# Altium integrated library NSC Interface.IntLib: 504 symbols (part 10 of 16)
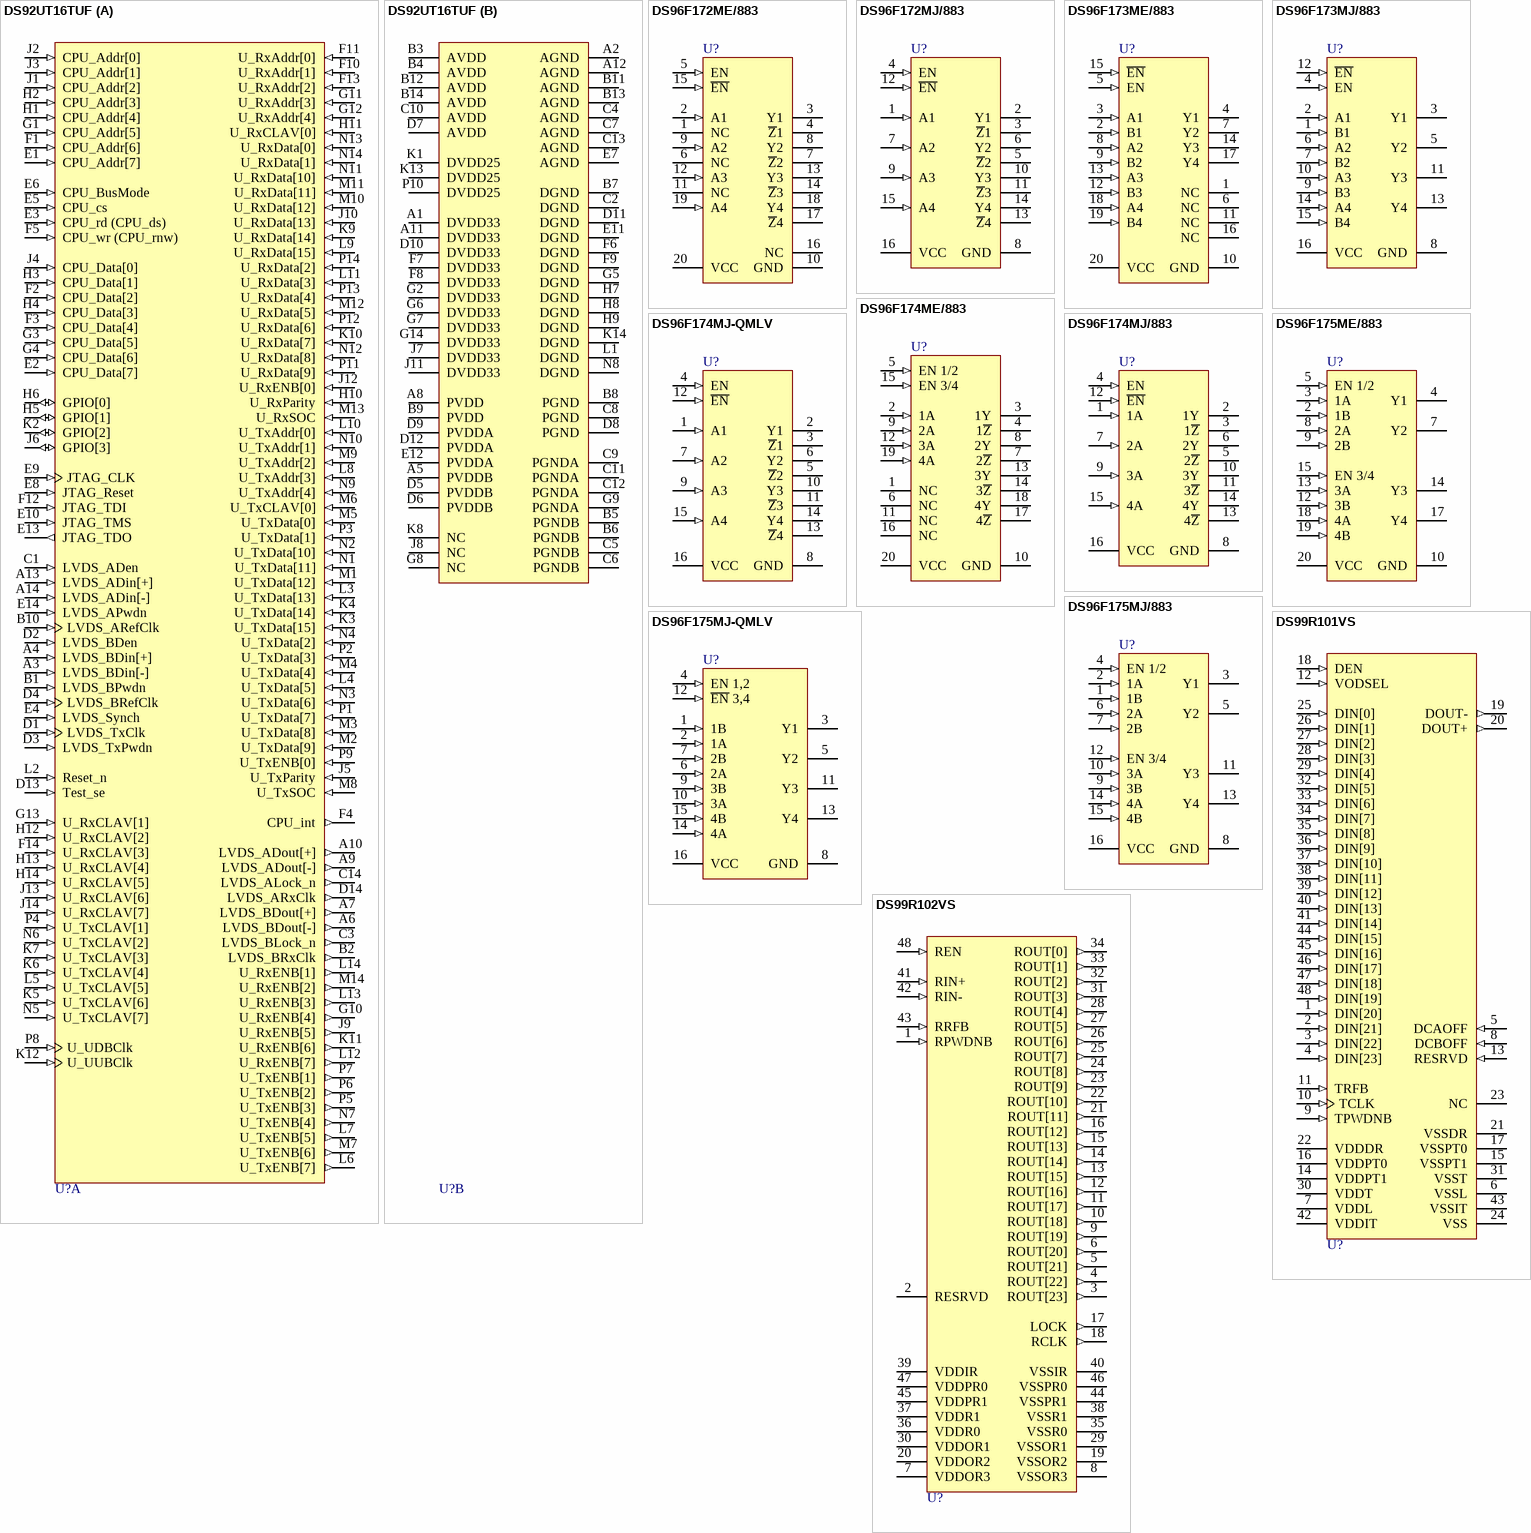
[diagram p50: symbols DS92UT16TUF to DS99R102VS]

## DS92UT16TUF
designator U?
Utopia-LVDS Bridge for 1.6 Gbps Bi-directional Data Transfers; PartNumber: DS92UT16TUF; Manufacturer: National Semiconductor; CompType: Interface IC; PackageTopMarking: NSUZXYYTT*DS92UT16TUF*BBBBB; PowerWise: N; Published: 4-Dec-2008; DatasheetVersion: Feb-2004; PackageVersion: revC, Jul-2005; PackageReference: UJB196A; Publisher: Altium Limited; PackageDescription: LBGA, 15 x 15 x 1.37mm, 196 Ball, 1.0mm Pitch; RoHS: O; PinCount: 196; DigiKeyPartNumber: DS92UT16TUF-ND; Code_JEDEC: MO-192-AAE-1; ComponentLink1Description: DS92UT16 Datasheet; ComponentLink1URL: http://www.national.com/ds/DS/DS92UT16.pdf; ComponentLink2Description: DS92UT16 Web Page; ComponentLink2URL: http://www.national.com/pf/DS/DS92UT16.html; ComponentLink3Description: UJB196A Package Page; ComponentLink3URL: http://www.national.com/packaging/folders/ujb196a.html
footprint UJB196A (BGA, 196-Leads, Body 15x15mm, Pitch 1mm)
part A pins: A3 LVDS_BDin[-] (in), A4 LVDS_BDin[+] (in), A6 LVDS_BDout[-] (out), A7 LVDS_BDout[+] (out), A9 LVDS_ADout[-] (out), A10 LVDS_ADout[+] (out), A13 LVDS_ADin[+] (in), A14 LVDS_ADin[-] (in), B1 LVDS_BPwdn (in), B2 LVDS_BRxClk (out), B10 LVDS_ARefClk (in), C1 LVDS_ADen (in), C3 LVDS_BLock_n (out), C14 LVDS_ALock_n (out), D1 LVDS_TxClk (in), D2 LVDS_BDen (in), D3 LVDS_TxPwdn (in), D4 LVDS_BRefClk (in), D13 Test_se (in), D14 LVDS_ARxClk (out), E1 CPU_Addr[7] (in), E2 CPU_Data[7] (in), E3 CPU_rd (CPU_ds) (in), E4 LVDS_Synch (in), E5 CPU_cs (in), E6 CPU_BusMode (in), E8 JTAG_Reset (in), E9 JTAG_CLK (in), E10 JTAG_TMS (in), E13 JTAG_TDO (out), E14 LVDS_APwdn (in), F1 CPU_Addr[6] (in), F2 CPU_Data[2] (in), F3 CPU_Data[4] (in), F4 CPU_int (out), F5 CPU_wr (CPU_rnw) (in), F10 U_RxAddr[1] (in), F11 U_RxAddr[0] (in), F12 JTAG_TDI (in), F13 U_RxAddr[2] (in), F14 U_RxCLAV[3] (in), G1 CPU_Addr[5] (in), G3 CPU_Data[5] (in), G4 CPU_Data[6] (in), G10 U_RxENB[4] (out), G11 U_RxAddr[3] (in), G12 U_RxAddr[4] (in), G13 U_RxCLAV[1] (in), H1 CPU_Addr[4] (in), H2 CPU_Addr[3] (in), H3 CPU_Data[1] (in), H4 CPU_Data[3] (in), H5 GPIO[1] (io), H6 GPIO[0] (io), H10 U_RxParity (in), H11 U_RxCLAV[0] (in), H12 U_RxCLAV[2] (in), H13 U_RxCLAV[4] (in), H14 U_RxCLAV[5] (in), J1 CPU_Addr[2] (in), J2 CPU_Addr[0] (in), J3 CPU_Addr[1] (in), J4 CPU_Data[0] (in), J5 U_TxParity (in), J6 GPIO[3] (io), J9 U_RxENB[5] (out), J10 U_RxData[13] (in), J12 U_RxENB[0] (in), J13 U_RxCLAV[6] (in), J14 U_RxCLAV[7] (in), K2 GPIO[2] (io), K3 U_TxData[15] (in), K4 U_TxData[14] (in), K5 U_TxCLAV[6] (in), K6 U_TxCLAV[4] (in), K7 U_TxCLAV[3] (in), K9 U_RxData[14] (in), K10 U_RxData[7] (in), K11 U_RxENB[6] (out), K12 U_UUBClk (in), L2 Reset_n (in), L3 U_TxData[13] (in), L4 U_TxData[5] (in), L5 U_TxCLAV[5] (in), L6 U_TxENB[7] (out), L7 U_TxENB[5] (out), L8 U_TxAddr[3] (in), L9 U_RxData[15] (in), L10 U_TxAddr[0] (in), L11 U_RxData[3] (in), L12 U_RxENB[7] (out), L13 U_RxENB[3] (out), L14 U_RxENB[1] (out), M1 U_TxData[12] (in), M2 U_TxData[9] (in), M3 U_TxData[8] (in), M4 U_TxData[4] (in), M5 U_TxData[0] (in), M6 U_TxCLAV[0] (in), M7 U_TxENB[6] (out), M8 U_TxSOC (in), M9 U_TxAddr[2] (in), M10 U_RxData[12] (in), M11 U_RxData[11] (in), M12 U_RxData[5] (in), M13 U_RxSOC (in), M14 U_RxENB[2] (out), N1 U_TxData[11] (in), N2 U_TxData[10] (in), N3 U_TxData[6] (in), N4 U_TxData[2] (in), N5 U_TxCLAV[7] (in), N6 U_TxCLAV[2] (in), N7 U_TxENB[4] (out), N9 U_TxAddr[4] (in), N10 U_TxAddr[1] (in), N11 U_RxData[10] (in), N12 U_RxData[8] (in), N13 U_RxData[0] (in), N14 U_RxData[1] (in), P1 U_TxData[7] (in), P2 U_TxData[3] (in), P3 U_TxData[1] (in), P4 U_TxCLAV[1] (in), P5 U_TxENB[3] (out), P6 U_TxENB[2] (out), P7 U_TxENB[1] (out), P8 U_UDBClk (in), P9 U_TxENB[0] (in), P11 U_RxData[9] (in), P12 U_RxData[6] (in), P13 U_RxData[4] (in), P14 U_RxData[2] (in)
part B pins: A1 DVDD33 (power), A2 AGND (power), A5 PVDDB (power), A8 PVDD (power), A11 DVDD33 (power), A12 AGND (power), B3 AVDD (power), B4 AVDD (power), B5 PGNDB (power), B6 PGNDB (power), B7 DGND (power), B8 PGND (power), B9 PVDD (power), B11 AGND (power), B12 AVDD (power), B13 AGND (power), B14 AVDD (power), C2 DGND (power), C4 AGND (power), C5 PGNDB (power), C6 PGNDB (power), C7 AGND (power), C8 PGND (power), C9 PGNDA (power), C10 AVDD (power), C11 PGNDA (power), C12 PGNDA (power), C13 AGND (power), D5 PVDDB (power), D6 PVDDB (power), D7 AVDD (power), D8 PGND (power), D9 PVDDA (power), D10 DVDD33 (power), D11 DGND (power), D12 PVDDA (power), E7 AGND (power), E11 DGND (power), E12 PVDDA (power), F6 DGND (power), F7 DVDD33 (power), F8 DVDD33 (power), F9 DGND (power), G2 DVDD33 (power), G5 DGND (power), G6 DVDD33 (power), G7 DVDD33 (power), G8 NC, G9 PGNDA (power), G14 DVDD33 (power), H7 DGND (power), H8 DGND (power), H9 DGND (power), J7 DVDD33 (power), J8 NC, J11 DVDD33 (power), K1 DVDD25 (power), K8 NC, K13 DVDD25 (power), K14 DGND (power), L1 DGND (power), N8 DGND (power), P10 DVDD25 (power)

## DS96F172ME/883
designator U?
EIA-485/EIA-422 Quad Differential Driver; PartNumber: DS96F172ME/883; Manufacturer: National Semiconductor; CompType: Interface IC; PackageTopMarking: NS*ZSSXXYYA*DS96F172ME*/883 Q 5962-*9076501M2A; PowerWise: N; Published: 4-Dec-2008; DatasheetVersion: Jul-2000; PackageVersion: revF, May-2004; PackageReference: E20A; Publisher: Altium Limited; PackageDescription: Leadless Chip Carrier, Type C, 20 Terminal; RoHS: N; PinCount: 20; Code_JEDEC: MS-004-CB; ComponentLink1Description: DS96F172M Datasheet; ComponentLink1URL: http://www.national.com/ds/DS/DS96F172M.pdf; ComponentLink2Description: DS96F172M Web Page; ComponentLink2URL: http://www.national.com/pf/DS/DS96F172M.html; ComponentLink3Description: E20A Package Page; ComponentLink3URL: http://www.national.com/packaging/folders/e20a.html
footprint E20A_N (Leadless Chip Carrier, 20-Leads, Body 8.9x8.9mm, Pitch 1.27mm, IPC Medium Density)
footprint E20A_L (Leadless Chip Carrier, 20-Leads, Body 8.9x8.9mm, Pitch 1.27mm, IPC High Density)
footprint E20A_M (Leadless Chip Carrier, 20-Leads, Body 8.9x8.9mm, Pitch 1.27mm, IPC Low Density)
pins: 1 NC, 2 A1 (in), 3 Y1 (hiz), 4 ~{Z}1 (hiz), 5 EN (in), 6 NC, 7 ~{Z}2 (hiz), 8 Y2 (hiz), 9 A2 (in), 10 GND (power), 11 NC, 12 A3 (in), 13 Y3 (hiz), 14 ~{Z}3 (hiz), 15 ~{EN} (in), 16 NC, 17 ~{Z}4 (hiz), 18 Y4 (hiz), 19 A4 (in), 20 VCC (power)

## DS96F172MJ/883
designator U?
EIA-485/EIA-422 Quad Differential Driver; PartNumber: DS96F172MJ/883; Manufacturer: National Semiconductor; CompType: Interface IC; PackageTopMarking: NSZSSXXYYA*DS96F172MJ/883 Q*5962-9076501MEA; PowerWise: N; Published: 4-Dec-2008; DatasheetVersion: Jul-2000; PackageVersion: revL, Sep-1993; PackageReference: J16A; Publisher: Altium Limited; PackageDescription: Cerdip (J), 16 Lead; RoHS: N; PinCount: 16; ComponentLink1Description: DS96F172M Datasheet; ComponentLink1URL: http://www.national.com/ds/DS/DS96F172M.pdf; ComponentLink2Description: DS96F172M Web Page; ComponentLink2URL: http://www.national.com/pf/DS/DS96F172M.html; ComponentLink3Description: J16A Package Page; ComponentLink3URL: http://www.national.com/packaging/folders/j16a.html
footprint J16A (DIP, 16-Leads, Row Spacing 7.62mm, Pitch 2.54mm, Body 19.56x6.73mm)
pins: 1 A1 (in), 2 Y1 (hiz), 3 ~{Z}1 (hiz), 4 EN (in), 5 ~{Z}2 (hiz), 6 Y2 (hiz), 7 A2 (in), 8 GND (power), 9 A3 (in), 10 Y3 (hiz), 11 ~{Z}3 (hiz), 12 ~{EN} (in), 13 ~{Z}4 (hiz), 14 Y4 (hiz), 15 A4 (in), 16 VCC (power)

## DS96F173ME/883
designator U?
EIA-485/EIA-422 Quad Differential Receiver; PartNumber: DS96F173ME/883; Manufacturer: National Semiconductor; CompType: Interface IC; PackageTopMarking: NS*ZSSXXYYA*DS96F173ME*/883 Q 5962-*9076602M2A; PowerWise: N; Published: 4-Dec-2008; DatasheetVersion: Jul-2000; PackageVersion: revF, May-2004; PackageReference: E20A; Publisher: Altium Limited; PackageDescription: Leadless Chip Carrier, Type C, 20 Terminal; RoHS: N; PinCount: 20; Code_JEDEC: MS-004-CB; ComponentLink1Description: DS96F173M Datasheet; ComponentLink1URL: http://www.national.com/ds/DS/DS96F173M.pdf; ComponentLink2Description: DS96F173M Web Page; ComponentLink2URL: http://www.national.com/pf/DS/DS96F173M.html; ComponentLink3Description: E20A Package Page; ComponentLink3URL: http://www.national.com/packaging/folders/e20a.html
footprint E20A_N (Leadless Chip Carrier, 20-Leads, Body 8.9x8.9mm, Pitch 1.27mm, IPC Medium Density)
footprint E20A_L (Leadless Chip Carrier, 20-Leads, Body 8.9x8.9mm, Pitch 1.27mm, IPC High Density)
footprint E20A_M (Leadless Chip Carrier, 20-Leads, Body 8.9x8.9mm, Pitch 1.27mm, IPC Low Density)
pins: 1 NC, 2 B1 (in), 3 A1 (in), 4 Y1 (hiz), 5 EN (in), 6 NC, 7 Y2 (hiz), 8 A2 (in), 9 B2 (in), 10 GND (power), 11 NC, 12 B3 (in), 13 A3 (in), 14 Y3 (hiz), 15 ~{EN} (in), 16 NC, 17 Y4 (hiz), 18 A4 (in), 19 B4 (in), 20 VCC (power)

## DS96F173MJ/883
designator U?
EIA-485/EIA-422 Quad Differential Receiver; PartNumber: DS96F173MJ/883; Manufacturer: National Semiconductor; CompType: Interface IC; PackageTopMarking: NSZSSXXYYA*DS96F173MJ/883 Q*5962-9076602MEA; PowerWise: N; Published: 4-Dec-2008; DatasheetVersion: Jul-2000; PackageVersion: revL, Sep-1993; PackageReference: J16A; Publisher: Altium Limited; PackageDescription: Cerdip (J), 16 Lead; RoHS: N; PinCount: 16; ComponentLink1Description: DS96F173M Datasheet; ComponentLink1URL: http://www.national.com/ds/DS/DS96F173M.pdf; ComponentLink2Description: DS96F173M Web Page; ComponentLink2URL: http://www.national.com/pf/DS/DS96F173M.html; ComponentLink3Description: J16A Package Page; ComponentLink3URL: http://www.national.com/packaging/folders/j16a.html
footprint J16A (DIP, 16-Leads, Row Spacing 7.62mm, Pitch 2.54mm, Body 19.56x6.73mm)
pins: 1 B1 (in), 2 A1 (in), 3 Y1 (hiz), 4 EN (in), 5 Y2 (hiz), 6 A2 (in), 7 B2 (in), 8 GND (power), 9 B3 (in), 10 A3 (in), 11 Y3 (hiz), 12 ~{EN} (in), 13 Y4 (hiz), 14 A4 (in), 15 B4 (in), 16 VCC (power)

## DS96F174ME/883
designator U?
EIA-485/EIA-422 Quad Differential Driver; PartNumber: DS96F174ME/883; Manufacturer: National Semiconductor; CompType: Interface IC; PackageTopMarking: NSZSSXXYYA*DS96F174ME*/883 Q*5962-*9076502M2A; PowerWise: N; Published: 4-Dec-2008; DatasheetVersion: Jul-2000; PackageVersion: revF, May-2004; PackageReference: E20A; Publisher: Altium Limited; PackageDescription: Leadless Chip Carrier, Type C, 20 Terminal; RoHS: N; PinCount: 20; Code_JEDEC: MS-004-CB; ComponentLink1Description: DS96F174M Datasheet; ComponentLink1URL: http://www.national.com/ds/DS/DS96F174M.pdf; ComponentLink2Description: DS96F174M Web Page; ComponentLink2URL: http://www.national.com/pf/DS/DS96F174M.html; ComponentLink3Description: E20A Package Page; ComponentLink3URL: http://www.national.com/packaging/folders/e20a.html
footprint E20A_N (Leadless Chip Carrier, 20-Leads, Body 8.9x8.9mm, Pitch 1.27mm, IPC Medium Density)
footprint E20A_L (Leadless Chip Carrier, 20-Leads, Body 8.9x8.9mm, Pitch 1.27mm, IPC High Density)
footprint E20A_M (Leadless Chip Carrier, 20-Leads, Body 8.9x8.9mm, Pitch 1.27mm, IPC Low Density)
pins: 1 NC, 2 1A (in), 3 1Y (hiz), 4 1~{Z} (hiz), 5 EN 1/2 (in), 6 NC, 7 2~{Z} (hiz), 8 2Y (hiz), 9 2A (in), 10 GND (power), 11 NC, 12 3A (in), 13 3Y (hiz), 14 3~{Z} (hiz), 15 EN 3/4 (in), 16 NC, 17 4~{Z} (hiz), 18 4Y (hiz), 19 4A (in), 20 VCC (power)

## DS96F174MJ-QMLV
designator U?
EIA-485/EIA-422 Quad Differential Drivers; PartNumber: DS96F174MJ/883; Manufacturer: National Semiconductor; CompType: Interface IC; PackageTopMarking: NSZSSXXYYA*DS96F174MJ/883 Q*5962-9076502MEA; PowerWise: N; Published: 4-Dec-2008; DatasheetVersion: Jul-2000; PackageVersion: revL, Sep-1993; PackageReference: J16A; Publisher: Altium Limited; PackageDescription: Cerdip (J), 16 Lead; RoHS: N; PinCount: 16; ComponentLink1Description: DS96F174M Datasheet; ComponentLink1URL: http://www.national.com/ds/DS/DS96F174M.pdf; ComponentLink2Description: DS96F174M Web Page; ComponentLink2URL: http://www.national.com/pf/DS/DS96F174M.html; ComponentLink3Description: J16A Package Page; ComponentLink3URL: http://www.national.com/packaging/folders/j16a.html
footprint J16A (DIP, 16-Leads, Row Spacing 7.62mm, Pitch 2.54mm, Body 19.56x6.73mm)
pins: 1 A1 (in), 2 Y1 (hiz), 3 ~{Z}1 (hiz), 4 EN (in), 5 ~{Z}2 (hiz), 6 Y2 (hiz), 7 A2 (in), 8 GND (power), 9 A3 (in), 10 Y3 (hiz), 11 ~{Z}3 (hiz), 12 ~{EN} (in), 13 ~{Z}4 (hiz), 14 Y4 (hiz), 15 A4 (in), 16 VCC (power)

## DS96F174MJ/883
designator U?
EIA-485/EIA-422 Quad Differential Driver; PartNumber: DS96F174MJ-QMLV; Manufacturer: National Semiconductor; CompType: Interface IC; PackageTopMarking: NSZSSXXYYA*5962-9076502VEA*DS96F174MJ-QV Q; PowerWise: N; Published: 4-Dec-2008; DatasheetVersion: Jul-2000; PackageVersion: revL, Sep-1993; PackageReference: J16A; Publisher: Altium Limited; PackageDescription: Cerdip (J), 16 Lead; RoHS: N; PinCount: 16; ComponentLink1Description: DS96F174M Datasheet; ComponentLink1URL: http://www.national.com/ds/DS/DS96F174M.pdf; ComponentLink2Description: DS96F174M Web Page; ComponentLink2URL: http://www.national.com/pf/DS/DS96F174M.html; ComponentLink3Description: J16A Package Page; ComponentLink3URL: http://www.national.com/packaging/folders/j16a.html
footprint J16A (DIP, 16-Leads, Row Spacing 7.62mm, Pitch 2.54mm, Body 19.56x6.73mm)
pins: 1 1A (in), 2 1Y (hiz), 3 1~{Z} (hiz), 4 EN (in), 5 2~{Z} (hiz), 6 2Y (hiz), 7 2A (in), 8 GND (power), 9 3A (in), 10 3Y (hiz), 11 3~{Z} (hiz), 12 ~{EN} (in), 13 4~{Z} (hiz), 14 4Y (hiz), 15 4A (in), 16 VCC (power)

## DS96F175ME/883
designator U?
EIA-485/EIA-422 Quad Differential Receiver; PartNumber: DS96F175ME/883; Manufacturer: National Semiconductor; CompType: Interface IC; PackageTopMarking: NS*ZSSXXYYA*DS96F175ME*/883 Q 5962-*9076601M2A; PowerWise: N; Published: 4-Dec-2008; DatasheetVersion: Jul-2000; PackageVersion: revF, May-2004; PackageReference: E20A; Publisher: Altium Limited; PackageDescription: Leadless Chip Carrier, Type C, 20 Terminal; RoHS: N; PinCount: 20; Code_JEDEC: MS-004-CB; ComponentLink1Description: DS96F175M Datasheet; ComponentLink1URL: http://www.national.com/ds/DS/DS96F175M.pdf; ComponentLink2Description: DS96F175M Web Page; ComponentLink2URL: http://www.national.com/pf/DS/DS96F175M.html; ComponentLink3Description: E20A Package Page; ComponentLink3URL: http://www.national.com/packaging/folders/e20a.html
footprint E20A_N (Leadless Chip Carrier, 20-Leads, Body 8.9x8.9mm, Pitch 1.27mm, IPC Medium Density)
footprint E20A_L (Leadless Chip Carrier, 20-Leads, Body 8.9x8.9mm, Pitch 1.27mm, IPC High Density)
footprint E20A_M (Leadless Chip Carrier, 20-Leads, Body 8.9x8.9mm, Pitch 1.27mm, IPC Low Density)
pins: 2 1B (in), 3 1A (in), 4 Y1 (hiz), 5 EN 1/2 (in), 7 Y2 (hiz), 8 2A (in), 9 2B (in), 10 GND (power), 12 3B (in), 13 3A (in), 14 Y3 (hiz), 15 EN 3/4 (in), 17 Y4 (hiz), 18 4A (in), 19 4B (in), 20 VCC (power)

## DS96F175MJ-QMLV
designator U?
RS-485/RS-422 Quad Differential Receiver; PartNumber: DS96F175MJ/883; Manufacturer: National Semiconductor; CompType: Interface IC; PackageTopMarking: NSZSSXXYYA*DS96F175MJ/883 Q*5962-9076601MEA; PowerWise: N; Published: 4-Dec-2008; DatasheetVersion: Jul-2000; PackageVersion: revL, Sep-1993; PackageReference: J16A; Publisher: Altium Limited; PackageDescription: Cerdip (J), 16 Lead; RoHS: N; PinCount: 16; ComponentLink1Description: DS96F175M Datasheet; ComponentLink1URL: http://www.national.com/ds/DS/DS96F175M.pdf; ComponentLink2Description: DS96F175M Web Page; ComponentLink2URL: http://www.national.com/pf/DS/DS96F175M.html; ComponentLink3Description: J16A Package Page; ComponentLink3URL: http://www.national.com/packaging/folders/j16a.html
footprint J16A (DIP, 16-Leads, Row Spacing 7.62mm, Pitch 2.54mm, Body 19.56x6.73mm)
pins: 1 1B (in), 2 1A (in), 3 Y1 (hiz), 4 EN 1,2 (in), 5 Y2 (hiz), 6 2A (in), 7 2B (in), 8 GND (power), 9 3B (in), 10 3A (in), 11 Y3 (hiz), 12 ~{EN} 3,4 (in), 13 Y4 (hiz), 14 4A (in), 15 4B (in), 16 VCC (power)

## DS96F175MJ/883
designator U?
EIA-485/EIA-422 Quad Differential Receiver; PartNumber: DS96F175MJ-QMLV; Manufacturer: National Semiconductor; CompType: Interface IC; PackageTopMarking: NSZSSXXYYA*5962-9076601VEA*DS96F175MJ-QV Q; Published: 4-Dec-2008; DatasheetVersion: Jul-2000; PackageVersion: revL, Sep-1993; PackageReference: J16A; Publisher: Altium Limited; PackageDescription: Cerdip (J), 16 Lead; RoHS: N; PinCount: 16; ComponentLink1Description: DS96F175M Datasheet; ComponentLink1URL: http://www.national.com/ds/DS/DS96F175M.pdf; ComponentLink2Description: DS96F175M Web Page; ComponentLink2URL: http://www.national.com/pf/DS/DS96F175M.html; ComponentLink3Description: J16A Package Page; ComponentLink3URL: http://www.national.com/packaging/folders/j16a.html
footprint J16A (DIP, 16-Leads, Row Spacing 7.62mm, Pitch 2.54mm, Body 19.56x6.73mm)
pins: 1 1B (in), 2 1A (in), 3 Y1 (hiz), 4 EN 1/2 (in), 5 Y2 (hiz), 6 2A (in), 7 2B (in), 8 GND (power), 9 3B (in), 10 3A (in), 11 Y3 (hiz), 12 EN 3/4 (in), 13 Y4 (hiz), 14 4A (in), 15 4B (in), 16 VCC (power)

## DS99R101VS
designator U?
3-40MHz DC-Balanced 24-Bit LVDS Serializer; PartNumber: DS99R101VS; Manufacturer: National Semiconductor; CompType: Interface IC; PackageTopMarking: NSUZXYTT*DS99R101*VS; PowerWise: N; Published: 4-Dec-2008; DatasheetVersion: Oct-2007; PackageVersion: revA, Apr-2000; PackageReference: VBC48A; Publisher: Altium Limited; PackageDescription: TQFP, Jedec Metric, 7 x 7 x 1mm, 48 Lead, 0.5mm Pitch; RoHS: Y; PinCount: 48; DigiKeyPartNumber: DS99R101VS-ND; Code_JEDEC: MS-026-ABC; ComponentLink1Description: DS99R101 Datasheet; ComponentLink1URL: http://www.national.com/ds/DS/DS99R101.pdf; ComponentLink2Description: DS99R101 Web Page; ComponentLink2URL: http://www.national.com/pf/DS/DS99R101.html; ComponentLink3Description: VBC48A Package Page; ComponentLink3URL: http://www.national.com/packaging/folders/vbc48a.html
footprint VBC48A_N (Thin QFP, 48-Leads, Body 7x7mm, Pitch 0.5mm, IPC Medium Density)
footprint VBC48A_L (Thin QFP, 48-Leads, Body 7x7mm, Pitch 0.5mm, IPC High Density)
footprint VBC48A_M (Thin QFP, 48-Leads, Body 7x7mm, Pitch 0.5mm, IPC Low Density)
pins: 1 DIN[20] (in), 2 DIN[21] (in), 3 DIN[22] (in), 4 DIN[23] (in), 5 DCAOFF (in), 6 VSSL (power), 7 VDDL (power), 8 DCBOFF (in), 9 TPWDNB (in), 10 TCLK (in), 11 TRFB (in), 12 VODSEL (in), 13 RESRVD (in), 14 VDDPT1 (power), 15 VSSPT1 (power), 16 VDDPT0 (power), 17 VSSPT0 (power), 18 DEN (in), 19 DOUT- (out), 20 DOUT+ (out), 21 VSSDR (power), 22 VDDDR (power), 23 NC, 24 VSS (power), 25 DIN[0] (in), 26 DIN[1] (in), 27 DIN[2] (in), 28 DIN[3] (in), 29 DIN[4] (in), 30 VDDT (power), 31 VSST (power), 32 DIN[5] (in), 33 DIN[6] (in), 34 DIN[7] (in), 35 DIN[8] (in), 36 DIN[9] (in), 37 DIN[10] (in), 38 DIN[11] (in), 39 DIN[12] (in), 40 DIN[13] (in), 41 DIN[14] (in), 42 VDDIT (power), 43 VSSIT (power), 44 DIN[15] (in), 45 DIN[16] (in), 46 DIN[17] (in), 47 DIN[18] (in), 48 DIN[19] (in)

## DS99R102VS
designator U?
3-40MHz DC-Balanced 24-Bit LVDS Deserializer; PartNumber: DS99R102VS; Manufacturer: National Semiconductor; CompType: Interface IC; PackageTopMarking: NSUZXYTT*DS99R102*VS; PowerWise: N; Published: 4-Dec-2008; DatasheetVersion: Oct-2007; PackageVersion: revA, Apr-2000; PackageReference: VBC48A; Publisher: Altium Limited; PackageDescription: TQFP, Jedec Metric, 7 x 7 x 1mm, 48 Lead, 0.5mm Pitch; RoHS: Y; PinCount: 48; DigiKeyPartNumber: DS99R102VS-ND; Code_JEDEC: MS-026-ABC; ComponentLink1Description: DS99R102 Datasheet; ComponentLink1URL: http://www.national.com/ds/DS/DS99R102.pdf; ComponentLink2Description: DS99R102 Web Page; ComponentLink2URL: http://www.national.com/pf/DS/DS99R102.html; ComponentLink3Description: VBC48A Package Page; ComponentLink3URL: http://www.national.com/packaging/folders/vbc48a.html
footprint VBC48A_N (Thin QFP, 48-Leads, Body 7x7mm, Pitch 0.5mm, IPC Medium Density)
footprint VBC48A_L (Thin QFP, 48-Leads, Body 7x7mm, Pitch 0.5mm, IPC High Density)
footprint VBC48A_M (Thin QFP, 48-Leads, Body 7x7mm, Pitch 0.5mm, IPC Low Density)
pins: 1 RPWDNB (in), 2 RESRVD, 3 ROUT[23] (out), 4 ROUT[22] (out), 5 ROUT[21] (out), 6 ROUT[20] (out), 7 VDDOR3 (power), 8 VSSOR3 (power), 9 ROUT[19] (out), 10 ROUT[18] (out), 11 ROUT[17] (out), 12 ROUT[16] (out), 13 ROUT[15] (out), 14 ROUT[14] (out), 15 ROUT[13] (out), 16 ROUT[12] (out), 17 LOCK (out), 18 RCLK (out), 19 VSSOR2 (power), 20 VDDOR2 (power), 21 ROUT[11] (out), 22 ROUT[10] (out), 23 ROUT[9] (out), 24 ROUT[8] (out), 25 ROUT[7] (out), 26 ROUT[6] (out), 27 ROUT[5] (out), 28 ROUT[4] (out), 29 VSSOR1 (power), 30 VDDOR1 (power), 31 ROUT[3] (out), 32 ROUT[2] (out), 33 ROUT[1] (out), 34 ROUT[0] (out), 35 VSSR0 (power), 36 VDDR0 (power), 37 VDDR1 (power), 38 VSSR1 (power), 39 VDDIR (power), 40 VSSIR (power), 41 RIN+ (in), 42 RIN- (in), 43 RRFB (in), 44 VSSPR1 (power), 45 VDDPR1 (power), 46 VSSPR0 (power), 47 VDDPR0 (power), 48 REN (in)

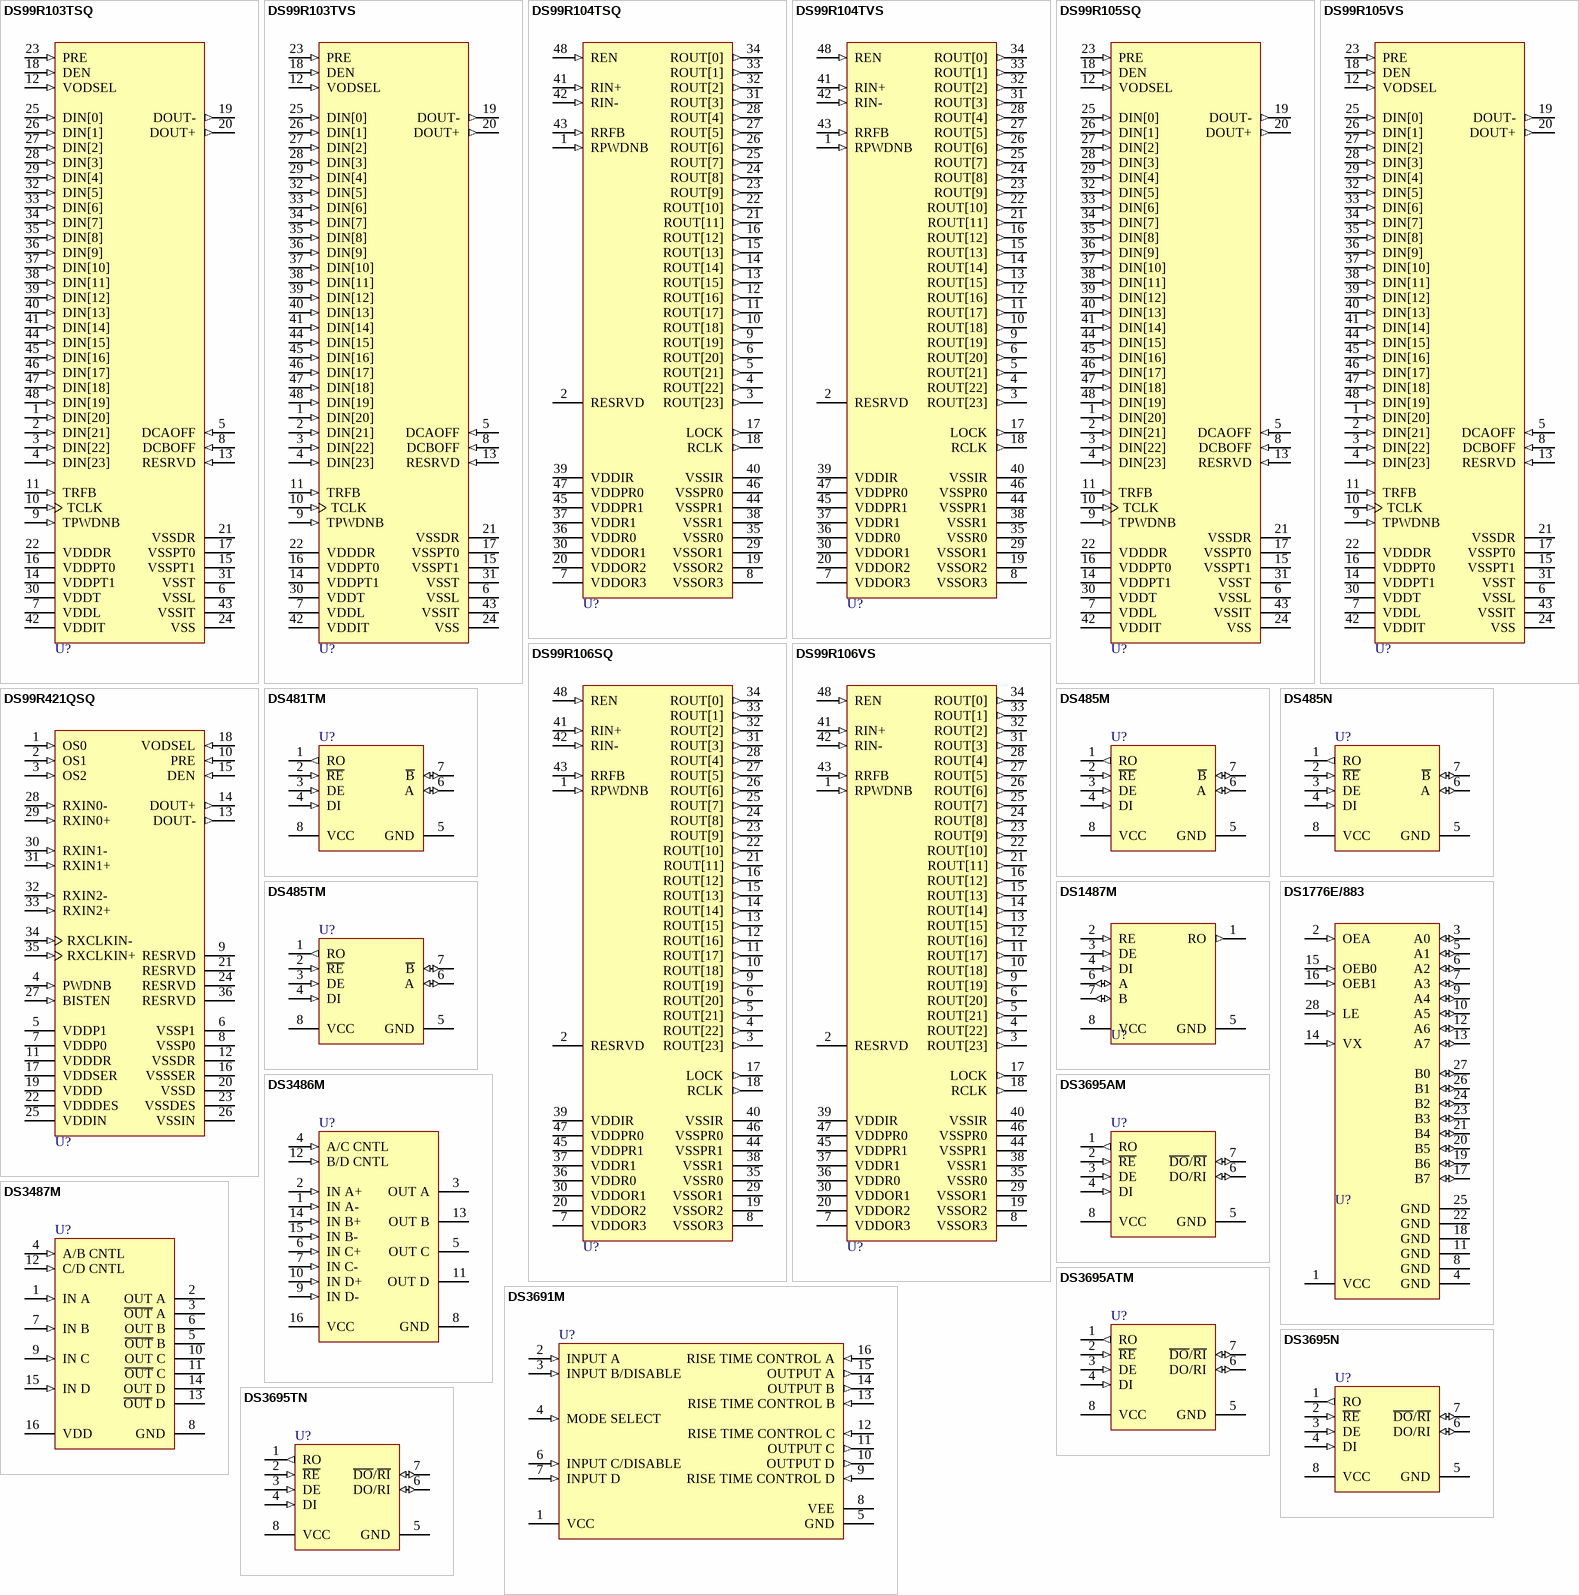
[diagram p27: symbols DS99R103TSQ to DS3695TN]

## DS99R103TSQ
designator U?
3-40MHz DC- Balanced 24-Bit LVDS Serializer; PartNumber: DS99R103TSQ; Manufacturer: National Semiconductor; CompType: Interface IC; PackageTopMarking: NS*UZXYTT*DS99R103T; PowerWise: N; Published: 4-Dec-2008; DatasheetVersion: Oct-2007; PackageVersion: revA, Jul-2004; PackageReference: SQA48D; Publisher: Altium Limited; PackageDescription: LLP, Quad, 7 x 7 x 0.8mm, 48 Lead, 0.5mm Pitch, 4.1 x 4.1mm Exposed Pad; RoHS: Y; PinCount: 48; DigiKeyPartNumber: DS99R103TSQTR-ND; ComponentLink1Description: DS99R103 Datasheet; ComponentLink1URL: http://www.national.com/ds/DS/DS99R103.pdf; ComponentLink2Description: DS99R103 Web Page; ComponentLink2URL: http://www.national.com/pf/DS/DS99R103.html; ComponentLink3Description: SQA48D Package Page; ComponentLink3URL: http://www.national.com/packaging/folders/sqa48d.html
footprint SQA48D (QFN, 48-Leads, Body 7x7mm, Pitch 0.5mm, NSC Recommended)
pins: 1 DIN[20] (in), 2 DIN[21] (in), 3 DIN[22] (in), 4 DIN[23] (in), 5 DCAOFF (in), 6 VSSL (power), 7 VDDL (power), 8 DCBOFF (in), 9 TPWDNB (in), 10 TCLK (in), 11 TRFB (in), 12 VODSEL (in), 13 RESRVD (in), 14 VDDPT1 (power), 15 VSSPT1 (power), 16 VDDPT0 (power), 17 VSSPT0 (power), 18 DEN (in), 19 DOUT- (out), 20 DOUT+ (out), 21 VSSDR (power), 22 VDDDR (power), 23 PRE (in), 24 VSS (power), 25 DIN[0] (in), 26 DIN[1] (in), 27 DIN[2] (in), 28 DIN[3] (in), 29 DIN[4] (in), 30 VDDT (power), 31 VSST (power), 32 DIN[5] (in), 33 DIN[6] (in), 34 DIN[7] (in), 35 DIN[8] (in), 36 DIN[9] (in), 37 DIN[10] (in), 38 DIN[11] (in), 39 DIN[12] (in), 40 DIN[13] (in), 41 DIN[14] (in), 42 VDDIT (power), 43 VSSIT (power), 44 DIN[15] (in), 45 DIN[16] (in), 46 DIN[17] (in), 47 DIN[18] (in), 48 DIN[19] (in)

## DS99R103TVS
designator U?
3-40MHz DC- Balanced 24-Bit LVDS Serializer; PartNumber: DS99R103TVS; Manufacturer: National Semiconductor; CompType: Interface IC; PackageTopMarking: NSUZXYTT*DS99R103*TVS; PowerWise: N; Published: 4-Dec-2008; DatasheetVersion: Oct-2007; PackageVersion: revA, Apr-2000; PackageReference: VBC48A; Publisher: Altium Limited; PackageDescription: TQFP, Jedec Metric, 7 x 7 x 1mm, 48 Lead, 0.5mm Pitch; RoHS: Y; PinCount: 48; DigiKeyPartNumber: DS99R103TVS-ND; Code_JEDEC: MS-026-ABC; ComponentLink1Description: DS99R103 Datasheet; ComponentLink1URL: http://www.national.com/ds/DS/DS99R103.pdf; ComponentLink2Description: DS99R103 Web Page; ComponentLink2URL: http://www.national.com/pf/DS/DS99R103.html; ComponentLink3Description: VBC48A Package Page; ComponentLink3URL: http://www.national.com/packaging/folders/vbc48a.html
footprint VBC48A_N (Thin QFP, 48-Leads, Body 7x7mm, Pitch 0.5mm, IPC Medium Density)
footprint VBC48A_L (Thin QFP, 48-Leads, Body 7x7mm, Pitch 0.5mm, IPC High Density)
footprint VBC48A_M (Thin QFP, 48-Leads, Body 7x7mm, Pitch 0.5mm, IPC Low Density)
pins: 1 DIN[20] (in), 2 DIN[21] (in), 3 DIN[22] (in), 4 DIN[23] (in), 5 DCAOFF (in), 6 VSSL (power), 7 VDDL (power), 8 DCBOFF (in), 9 TPWDNB (in), 10 TCLK (in), 11 TRFB (in), 12 VODSEL (in), 13 RESRVD (in), 14 VDDPT1 (power), 15 VSSPT1 (power), 16 VDDPT0 (power), 17 VSSPT0 (power), 18 DEN (in), 19 DOUT- (out), 20 DOUT+ (out), 21 VSSDR (power), 22 VDDDR (power), 23 PRE (in), 24 VSS (power), 25 DIN[0] (in), 26 DIN[1] (in), 27 DIN[2] (in), 28 DIN[3] (in), 29 DIN[4] (in), 30 VDDT (power), 31 VSST (power), 32 DIN[5] (in), 33 DIN[6] (in), 34 DIN[7] (in), 35 DIN[8] (in), 36 DIN[9] (in), 37 DIN[10] (in), 38 DIN[11] (in), 39 DIN[12] (in), 40 DIN[13] (in), 41 DIN[14] (in), 42 VDDIT (power), 43 VSSIT (power), 44 DIN[15] (in), 45 DIN[16] (in), 46 DIN[17] (in), 47 DIN[18] (in), 48 DIN[19] (in)

## DS99R104TSQ
designator U?
3-40MHz DC- Balanced 24-Bit LVDS Deserializer; PartNumber: DS99R104TSQ; Manufacturer: National Semiconductor; CompType: Interface IC; PackageTopMarking: NS*UZXYTT*DS99R104T; PowerWise: N; Published: 4-Dec-2008; DatasheetVersion: Oct-2007; PackageVersion: revA, Jul-2004; PackageReference: SQA48D; Publisher: Altium Limited; PackageDescription: LLP, Quad, 7 x 7 x 0.8mm, 48 Lead, 0.5mm Pitch, 4.1 x 4.1mm Exposed Pad; RoHS: Y; PinCount: 48; DigiKeyPartNumber: DS99R104TSQTR-ND; ComponentLink1Description: DS99R104 Datasheet; ComponentLink1URL: http://www.national.com/ds/DS/DS99R104.pdf; ComponentLink2Description: DS99R104 Web Page; ComponentLink2URL: http://www.national.com/pf/DS/DS99R104.html; ComponentLink3Description: SQA48D Package Page; ComponentLink3URL: http://www.national.com/packaging/folders/sqa48d.html
footprint SQA48D (QFN, 48-Leads, Body 7x7mm, Pitch 0.5mm, NSC Recommended)
pins: 1 RPWDNB (in), 2 RESRVD, 3 ROUT[23] (out), 4 ROUT[22] (out), 5 ROUT[21] (out), 6 ROUT[20] (out), 7 VDDOR3 (power), 8 VSSOR3 (power), 9 ROUT[19] (out), 10 ROUT[18] (out), 11 ROUT[17] (out), 12 ROUT[16] (out), 13 ROUT[15] (out), 14 ROUT[14] (out), 15 ROUT[13] (out), 16 ROUT[12] (out), 17 LOCK (out), 18 RCLK (out), 19 VSSOR2 (power), 20 VDDOR2 (power), 21 ROUT[11] (out), 22 ROUT[10] (out), 23 ROUT[9] (out), 24 ROUT[8] (out), 25 ROUT[7] (out), 26 ROUT[6] (out), 27 ROUT[5] (out), 28 ROUT[4] (out), 29 VSSOR1 (power), 30 VDDOR1 (power), 31 ROUT[3] (out), 32 ROUT[2] (out), 33 ROUT[1] (out), 34 ROUT[0] (out), 35 VSSR0 (power), 36 VDDR0 (power), 37 VDDR1 (power), 38 VSSR1 (power), 39 VDDIR (power), 40 VSSIR (power), 41 RIN+ (in), 42 RIN- (in), 43 RRFB (in), 44 VSSPR1 (power), 45 VDDPR1 (power), 46 VSSPR0 (power), 47 VDDPR0 (power), 48 REN (in)

## DS99R104TVS
designator U?
3-40MHz DC- Balanced 24-Bit LVDS Deserializer; PartNumber: DS99R104TVS; Manufacturer: National Semiconductor; CompType: Interface IC; PackageTopMarking: NSUZXYTT*DS99R104*TVS; PowerWise: N; Published: 4-Dec-2008; DatasheetVersion: Oct-2007; PackageVersion: revA, Apr-2000; PackageReference: VBC48A; Publisher: Altium Limited; PackageDescription: TQFP, Jedec Metric, 7 x 7 x 1mm, 48 Lead, 0.5mm Pitch; RoHS: Y; PinCount: 48; DigiKeyPartNumber: DS99R104TVS-ND; Code_JEDEC: MS-026-ABC; ComponentLink1Description: DS99R104 Datasheet; ComponentLink1URL: http://www.national.com/ds/DS/DS99R104.pdf; ComponentLink2Description: DS99R104 Web Page; ComponentLink2URL: http://www.national.com/pf/DS/DS99R104.html; ComponentLink3Description: VBC48A Package Page; ComponentLink3URL: http://www.national.com/packaging/folders/vbc48a.html
footprint VBC48A_N (Thin QFP, 48-Leads, Body 7x7mm, Pitch 0.5mm, IPC Medium Density)
footprint VBC48A_L (Thin QFP, 48-Leads, Body 7x7mm, Pitch 0.5mm, IPC High Density)
footprint VBC48A_M (Thin QFP, 48-Leads, Body 7x7mm, Pitch 0.5mm, IPC Low Density)
pins: 1 RPWDNB (in), 2 RESRVD, 3 ROUT[23] (out), 4 ROUT[22] (out), 5 ROUT[21] (out), 6 ROUT[20] (out), 7 VDDOR3 (power), 8 VSSOR3 (power), 9 ROUT[19] (out), 10 ROUT[18] (out), 11 ROUT[17] (out), 12 ROUT[16] (out), 13 ROUT[15] (out), 14 ROUT[14] (out), 15 ROUT[13] (out), 16 ROUT[12] (out), 17 LOCK (out), 18 RCLK (out), 19 VSSOR2 (power), 20 VDDOR2 (power), 21 ROUT[11] (out), 22 ROUT[10] (out), 23 ROUT[9] (out), 24 ROUT[8] (out), 25 ROUT[7] (out), 26 ROUT[6] (out), 27 ROUT[5] (out), 28 ROUT[4] (out), 29 VSSOR1 (power), 30 VDDOR1 (power), 31 ROUT[3] (out), 32 ROUT[2] (out), 33 ROUT[1] (out), 34 ROUT[0] (out), 35 VSSR0 (power), 36 VDDR0 (power), 37 VDDR1 (power), 38 VSSR1 (power), 39 VDDIR (power), 40 VSSIR (power), 41 RIN+ (in), 42 RIN- (in), 43 RRFB (in), 44 VSSPR1 (power), 45 VDDPR1 (power), 46 VSSPR0 (power), 47 VDDPR0 (power), 48 REN (in)

## DS99R105SQ
designator U?
3-40MHz DC- Balanced 24-Bit LVDS Serializer; PartNumber: DS99R105SQ; Manufacturer: National Semiconductor; CompType: Interface IC; PackageTopMarking: NS*UZXYTT*DS99R105; PowerWise: N; Published: 4-Dec-2008; DatasheetVersion: Oct-2007; PackageVersion: revA, Jul-2004; PackageReference: SQA48D; Publisher: Altium Limited; PackageDescription: LLP, Quad, 7 x 7 x 0.8mm, 48 Lead, 0.5mm Pitch, 4.1 x 4.1mm Exposed Pad; RoHS: Y; PinCount: 48; DigiKeyPartNumber: DS99R105SQTR-ND; ComponentLink1Description: DS99R105 Datasheet; ComponentLink1URL: http://www.national.com/ds/DS/DS99R105.pdf; ComponentLink2Description: DS99R105 Web Page; ComponentLink2URL: http://www.national.com/pf/DS/DS99R105.html; ComponentLink3Description: SQA48D Package Page; ComponentLink3URL: http://www.national.com/packaging/folders/sqa48d.html
footprint SQA48D (QFN, 48-Leads, Body 7x7mm, Pitch 0.5mm, NSC Recommended)
pins: 1 DIN[20] (in), 2 DIN[21] (in), 3 DIN[22] (in), 4 DIN[23] (in), 5 DCAOFF (in), 6 VSSL (power), 7 VDDL (power), 8 DCBOFF (in), 9 TPWDNB (in), 10 TCLK (in), 11 TRFB (in), 12 VODSEL (in), 13 RESRVD (in), 14 VDDPT1 (power), 15 VSSPT1 (power), 16 VDDPT0 (power), 17 VSSPT0 (power), 18 DEN (in), 19 DOUT- (out), 20 DOUT+ (out), 21 VSSDR (power), 22 VDDDR (power), 23 PRE (in), 24 VSS (power), 25 DIN[0] (in), 26 DIN[1] (in), 27 DIN[2] (in), 28 DIN[3] (in), 29 DIN[4] (in), 30 VDDT (power), 31 VSST (power), 32 DIN[5] (in), 33 DIN[6] (in), 34 DIN[7] (in), 35 DIN[8] (in), 36 DIN[9] (in), 37 DIN[10] (in), 38 DIN[11] (in), 39 DIN[12] (in), 40 DIN[13] (in), 41 DIN[14] (in), 42 VDDIT (power), 43 VSSIT (power), 44 DIN[15] (in), 45 DIN[16] (in), 46 DIN[17] (in), 47 DIN[18] (in), 48 DIN[19] (in)

## DS99R105VS
designator U?
3-40MHz DC- Balanced 24-Bit LVDS Serializer; PartNumber: DS99R105VS; Manufacturer: National Semiconductor; CompType: Interface IC; PackageTopMarking: NSUZXYTT*DS99R105*VS; PowerWise: N; Published: 4-Dec-2008; DatasheetVersion: Oct-2007; PackageVersion: revA, Apr-2000; PackageReference: VBC48A; Publisher: Altium Limited; PackageDescription: TQFP, Jedec Metric, 7 x 7 x 1mm, 48 Lead, 0.5mm Pitch; RoHS: Y; PinCount: 48; DigiKeyPartNumber: DS99R105VS-ND; Code_JEDEC: MS-026-ABC; ComponentLink1Description: DS99R105 Datasheet; ComponentLink1URL: http://www.national.com/ds/DS/DS99R105.pdf; ComponentLink2Description: DS99R105 Web Page; ComponentLink2URL: http://www.national.com/pf/DS/DS99R105.html; ComponentLink3Description: VBC48A Package Page; ComponentLink3URL: http://www.national.com/packaging/folders/vbc48a.html
footprint VBC48A_N (Thin QFP, 48-Leads, Body 7x7mm, Pitch 0.5mm, IPC Medium Density)
footprint VBC48A_L (Thin QFP, 48-Leads, Body 7x7mm, Pitch 0.5mm, IPC High Density)
footprint VBC48A_M (Thin QFP, 48-Leads, Body 7x7mm, Pitch 0.5mm, IPC Low Density)
pins: 1 DIN[20] (in), 2 DIN[21] (in), 3 DIN[22] (in), 4 DIN[23] (in), 5 DCAOFF (in), 6 VSSL (power), 7 VDDL (power), 8 DCBOFF (in), 9 TPWDNB (in), 10 TCLK (in), 11 TRFB (in), 12 VODSEL (in), 13 RESRVD (in), 14 VDDPT1 (power), 15 VSSPT1 (power), 16 VDDPT0 (power), 17 VSSPT0 (power), 18 DEN (in), 19 DOUT- (out), 20 DOUT+ (out), 21 VSSDR (power), 22 VDDDR (power), 23 PRE (in), 24 VSS (power), 25 DIN[0] (in), 26 DIN[1] (in), 27 DIN[2] (in), 28 DIN[3] (in), 29 DIN[4] (in), 30 VDDT (power), 31 VSST (power), 32 DIN[5] (in), 33 DIN[6] (in), 34 DIN[7] (in), 35 DIN[8] (in), 36 DIN[9] (in), 37 DIN[10] (in), 38 DIN[11] (in), 39 DIN[12] (in), 40 DIN[13] (in), 41 DIN[14] (in), 42 VDDIT (power), 43 VSSIT (power), 44 DIN[15] (in), 45 DIN[16] (in), 46 DIN[17] (in), 47 DIN[18] (in), 48 DIN[19] (in)

## DS99R106SQ
designator U?
3-40MHz DC- Balanced 24-Bit LVDS Deserializer; PartNumber: DS99R106SQ; Manufacturer: National Semiconductor; CompType: Interface IC; PackageTopMarking: NS*UZXYTT*DS99R106; PowerWise: N; Published: 4-Dec-2008; DatasheetVersion: Oct-2007; PackageVersion: revA, Jul-2004; PackageReference: SQA48D; Publisher: Altium Limited; PackageDescription: LLP, Quad, 7 x 7 x 0.8mm, 48 Lead, 0.5mm Pitch, 4.1 x 4.1mm Exposed Pad; RoHS: Y; PinCount: 48; DigiKeyPartNumber: DS99R106SQTR-ND; ComponentLink1Description: DS99R106 Datasheet; ComponentLink1URL: http://www.national.com/ds/DS/DS99R106.pdf; ComponentLink2Description: DS99R106 Web Page; ComponentLink2URL: http://www.national.com/pf/DS/DS99R106.html; ComponentLink3Description: SQA48D Package Page; ComponentLink3URL: http://www.national.com/packaging/folders/sqa48d.html
footprint SQA48D (QFN, 48-Leads, Body 7x7mm, Pitch 0.5mm, NSC Recommended)
pins: 1 RPWDNB (in), 2 RESRVD, 3 ROUT[23] (out), 4 ROUT[22] (out), 5 ROUT[21] (out), 6 ROUT[20] (out), 7 VDDOR3 (power), 8 VSSOR3 (power), 9 ROUT[19] (out), 10 ROUT[18] (out), 11 ROUT[17] (out), 12 ROUT[16] (out), 13 ROUT[15] (out), 14 ROUT[14] (out), 15 ROUT[13] (out), 16 ROUT[12] (out), 17 LOCK (out), 18 RCLK (out), 19 VSSOR2 (power), 20 VDDOR2 (power), 21 ROUT[11] (out), 22 ROUT[10] (out), 23 ROUT[9] (out), 24 ROUT[8] (out), 25 ROUT[7] (out), 26 ROUT[6] (out), 27 ROUT[5] (out), 28 ROUT[4] (out), 29 VSSOR1 (power), 30 VDDOR1 (power), 31 ROUT[3] (out), 32 ROUT[2] (out), 33 ROUT[1] (out), 34 ROUT[0] (out), 35 VSSR0 (power), 36 VDDR0 (power), 37 VDDR1 (power), 38 VSSR1 (power), 39 VDDIR (power), 40 VSSIR (power), 41 RIN+ (in), 42 RIN- (in), 43 RRFB (in), 44 VSSPR1 (power), 45 VDDPR1 (power), 46 VSSPR0 (power), 47 VDDPR0 (power), 48 REN (in)

## DS99R106VS
designator U?
3-40MHz DC- Balanced 24-Bit LVDS Deserializer; PartNumber: DS99R106VS; Manufacturer: National Semiconductor; CompType: Interface IC; PackageTopMarking: NSUZXYTT*DS99R106*VS; PowerWise: N; Published: 4-Dec-2008; DatasheetVersion: Oct-2007; PackageVersion: revA, Apr-2000; PackageReference: VBC48A; Publisher: Altium Limited; PackageDescription: TQFP, Jedec Metric, 7 x 7 x 1mm, 48 Lead, 0.5mm Pitch; RoHS: Y; PinCount: 48; DigiKeyPartNumber: DS99R106VS-ND; Code_JEDEC: MS-026-ABC; ComponentLink1Description: DS99R106 Datasheet; ComponentLink1URL: http://www.national.com/ds/DS/DS99R106.pdf; ComponentLink2Description: DS99R106 Web Page; ComponentLink2URL: http://www.national.com/pf/DS/DS99R106.html; ComponentLink3Description: VBC48A Package Page; ComponentLink3URL: http://www.national.com/packaging/folders/vbc48a.html
footprint VBC48A_N (Thin QFP, 48-Leads, Body 7x7mm, Pitch 0.5mm, IPC Medium Density)
footprint VBC48A_L (Thin QFP, 48-Leads, Body 7x7mm, Pitch 0.5mm, IPC High Density)
footprint VBC48A_M (Thin QFP, 48-Leads, Body 7x7mm, Pitch 0.5mm, IPC Low Density)
pins: 1 RPWDNB (in), 2 RESRVD, 3 ROUT[23] (out), 4 ROUT[22] (out), 5 ROUT[21] (out), 6 ROUT[20] (out), 7 VDDOR3 (power), 8 VSSOR3 (power), 9 ROUT[19] (out), 10 ROUT[18] (out), 11 ROUT[17] (out), 12 ROUT[16] (out), 13 ROUT[15] (out), 14 ROUT[14] (out), 15 ROUT[13] (out), 16 ROUT[12] (out), 17 LOCK (out), 18 RCLK (out), 19 VSSOR2 (power), 20 VDDOR2 (power), 21 ROUT[11] (out), 22 ROUT[10] (out), 23 ROUT[9] (out), 24 ROUT[8] (out), 25 ROUT[7] (out), 26 ROUT[6] (out), 27 ROUT[5] (out), 28 ROUT[4] (out), 29 VSSOR1 (power), 30 VDDOR1 (power), 31 ROUT[3] (out), 32 ROUT[2] (out), 33 ROUT[1] (out), 34 ROUT[0] (out), 35 VSSR0 (power), 36 VDDR0 (power), 37 VDDR1 (power), 38 VSSR1 (power), 39 VDDIR (power), 40 VSSIR (power), 41 RIN+ (in), 42 RIN- (in), 43 RRFB (in), 44 VSSPR1 (power), 45 VDDPR1 (power), 46 VSSPR0 (power), 47 VDDPR0 (power), 48 REN (in)

## DS99R421QSQ
designator U?
5-43 MHz FPD-Link LVDS (3 Data + 1 Clock) to Single Embedded Clock DC-Balanced LVDS Converter; PartNumber: DS99R421QSQ; Manufacturer: National Semiconductor; CompType: Interface IC; PackageTopMarking: NS*UZXYTT*99R421Q; PowerWise: N; Published: 4-Dec-2008; DatasheetVersion: Jan-2008; PackageVersion: revA, Jun-2003; PackageReference: SQA36A; Publisher: Altium Limited; PackageDescription: LLP, Plastic, Quad, 6 x 6 x 0.8mm Body, 36 Lead, 0.5mm Pitch, No Pullback; RoHS: Y; PinCount: 36; DigiKeyPartNumber: DS99R421QSQTR-ND; ComponentLink1Description: DS99R421 Datasheet; ComponentLink1URL: http://www.national.com/ds/DS/DS99R421.pdf; ComponentLink2Description: DS99R421 Web Page; ComponentLink2URL: http://www.national.com/pf/DS/DS99R421.html; ComponentLink3Description: SQA36A Package Page; ComponentLink3URL: http://www.national.com/packaging/folders/sqa36a.html
footprint SQA36A (QFN, 36-Leads, Body 6x6mm, Pitch 0.5mm, NSC Recommended)
pins: 1 OS0 (in), 2 OS1 (in), 3 OS2 (in), 4 PWDNB (in), 5 VDDP1 (power), 6 VSSP1 (power), 7 VDDP0 (power), 8 VSSP0 (power), 9 RESRVD, 10 PRE (in), 11 VDDDR (power), 12 VSSDR (power), 13 DOUT- (out), 14 DOUT+ (out), 15 DEN (in), 16 VSSSER (power), 17 VDDSER (power), 18 VODSEL (in), 19 VDDD (power), 20 VSSD (power), 21 RESRVD, 22 VDDDES (power), 23 VSSDES (power), 24 RESRVD, 25 VDDIN (power), 26 VSSIN (power), 27 BISTEN (in), 28 RXIN0- (in), 29 RXIN0+ (in), 30 RXIN1- (in), 31 RXIN1+ (in), 32 RXIN2- (in), 33 RXIN2+ (in), 34 RXCLKIN- (in), 35 RXCLKIN+ (in), 36 RESRVD

## DS481TM
designator U?
Low Power RS-485/RS-422 Multipoint Transceiver with Sleep Mode; PartNumber: DS481TM; Manufacturer: National Semiconductor; CompType: Interface IC; PackageTopMarking: NSZXTT*DS481*TM; PowerWise: N; Published: 4-Dec-2008; DatasheetVersion: Jul-2000; PackageVersion: revL, Sep-2006; PackageReference: M08A; Publisher: Altium Limited; PackageDescription: SOIC Narrow, 4.9 x 3.9 x 1.45mm, 8 Lead, 1.27mm Pitch; RoHS: O; PinCount: 8; DigiKeyPartNumber: DS481TMX-ND; Code_JEDEC: MS-012-AA; Code_IPC: SOIC127P600-8; ComponentLink1Description: DS481 Datasheet; ComponentLink1URL: http://www.national.com/ds/DS/DS481.pdf; ComponentLink2Description: DS481 Web Page; ComponentLink2URL: http://www.national.com/pf/DS/DS481.html; ComponentLink3Description: M08A Package Page; ComponentLink3URL: http://www.national.com/packaging/folders/m08a.html
footprint M08A_N (SOIC, 8-Leads, Body 4.9x3.9mm, Pitch 1.27mm, IPC Medium Density)
footprint M08A_L (SOIC, 8-Leads, Body 4.9x3.9mm, Pitch 1.27mm, IPC High Density)
footprint M08A_M (SOIC, 8-Leads, Body 4.9x3.9mm, Pitch 1.27mm, IPC Low Density)
pins: 1 RO (out), 2 ~{RE} (in), 3 DE (in), 4 DI (in), 5 GND (power), 6 A (io), 7 ~{B} (io), 8 VCC (power)

## DS485M
designator U?
Low-Power RS-485/RS-422 Multipoint Transceiver; PartNumber: DS485M; Manufacturer: National Semiconductor; CompType: Interface IC; PackageTopMarking: NSZXTT*DS485*M; PowerWise: N; Published: 4-Dec-2008; DatasheetVersion: Jul-1998; PackageVersion: revL, Sep-2006; PackageReference: M08A; Publisher: Altium Limited; PackageDescription: SOIC Narrow, 4.9 x 3.9 x 1.45mm, 8 Lead, 1.27mm Pitch; RoHS: Y; PinCount: 8; DigiKeyPartNumber: DS485M-ND; Code_JEDEC: MS-012-AA; Code_IPC: SOIC127P600-8; ComponentLink1Description: DS485 Datasheet; ComponentLink1URL: http://www.national.com/ds/DS/DS485.pdf; ComponentLink2Description: DS485 Web Page; ComponentLink2URL: http://www.national.com/pf/DS/DS485.html; ComponentLink3Description: M08A Package Page; ComponentLink3URL: http://www.national.com/packaging/folders/m08a.html
footprint M08A_N (SOIC, 8-Leads, Body 4.9x3.9mm, Pitch 1.27mm, IPC Medium Density)
footprint M08A_L (SOIC, 8-Leads, Body 4.9x3.9mm, Pitch 1.27mm, IPC High Density)
footprint M08A_M (SOIC, 8-Leads, Body 4.9x3.9mm, Pitch 1.27mm, IPC Low Density)
pins: 1 RO (out), 2 ~{RE} (in), 3 DE (in), 4 DI (in), 5 GND (power), 6 A (io), 7 ~{B} (io), 8 VCC (power)

## DS485N
designator U?
Low-Power RS-485/RS-422 Multipoint Transceiver; PartNumber: DS485N; Manufacturer: National Semiconductor; CompType: Interface IC; PackageTopMarking: NSUZXYTT*DS485*N; PowerWise: N; Published: 4-Dec-2008; DatasheetVersion: Jul-1998; PackageVersion: revG, May-2006; PackageReference: N08E; Publisher: Altium Limited; PackageDescription: MDIP, .365 x .250 x .130in, 8 Lead, .100in Pitch; RoHS: Y; PinCount: 8; DigiKeyPartNumber: DS485N-ND; Code_JEDEC: MS-001-BA; ComponentLink1Description: DS485 Datasheet; ComponentLink1URL: http://www.national.com/ds/DS/DS485.pdf; ComponentLink2Description: DS485 Web Page; ComponentLink2URL: http://www.national.com/pf/DS/DS485.html; ComponentLink3Description: N08E Package Page; ComponentLink3URL: http://www.national.com/packaging/folders/n08e.html
footprint N08E (DIP, 8-Leads, Row Spacing 7.62mm, Pitch 2.54mm, Body 9.91x6.35mm)
pins: 1 RO (out), 2 ~{RE} (in), 3 DE (in), 4 DI (in), 5 GND (power), 6 A (io), 7 ~{B} (io), 8 VCC (power)

## DS485TM
designator U?
Low-Power RS-485/RS-422 Multipoint Transceiver; PartNumber: DS485TM; Manufacturer: National Semiconductor; CompType: Interface IC; PackageTopMarking: NSZXTT*DS485*TM; PowerWise: N; Published: 4-Dec-2008; DatasheetVersion: Jul-1998; PackageVersion: revL, Sep-2006; PackageReference: M08A; Publisher: Altium Limited; PackageDescription: SOIC Narrow, 4.9 x 3.9 x 1.45mm, 8 Lead, 1.27mm Pitch; RoHS: O; PinCount: 8; DigiKeyPartNumber: DS485TM-ND; Code_JEDEC: MS-012-AA; Code_IPC: SOIC127P600-8; ComponentLink1Description: DS485 Datasheet; ComponentLink1URL: http://www.national.com/ds/DS/DS485.pdf; ComponentLink2Description: DS485 Web Page; ComponentLink2URL: http://www.national.com/pf/DS/DS485.html; ComponentLink3Description: M08A Package Page; ComponentLink3URL: http://www.national.com/packaging/folders/m08a.html
footprint M08A_N (SOIC, 8-Leads, Body 4.9x3.9mm, Pitch 1.27mm, IPC Medium Density)
footprint M08A_L (SOIC, 8-Leads, Body 4.9x3.9mm, Pitch 1.27mm, IPC High Density)
footprint M08A_M (SOIC, 8-Leads, Body 4.9x3.9mm, Pitch 1.27mm, IPC Low Density)
pins: 1 RO (out), 2 ~{RE} (in), 3 DE (in), 4 DI (in), 5 GND (power), 6 A (io), 7 ~{B} (io), 8 VCC (power)

## DS1487M
designator U?
Low Power RS-485/1/4 Unit Load Multipoint Transceiver; PartNumber: DS1487M; Manufacturer: National Semiconductor; CompType: Interface IC; PackageTopMarking: NSZXTT*DS148*7M; PowerWise: N; Published: 4-Dec-2008; DatasheetVersion: Jul-1998; PackageVersion: revL, Sep-2006; PackageReference: M08A; Publisher: Altium Limited; PackageDescription: SOIC Narrow, 4.9 x 3.9 x 1.45mm, 8 Lead, 1.27mm Pitch; RoHS: Y; PinCount: 8; DigiKeyPartNumber: DS1487M-ND; Code_JEDEC: MS-012-AA; Code_IPC: SOIC127P600-8; ComponentLink1Description: DS1487 Datasheet; ComponentLink1URL: http://www.national.com/ds/DS/DS1487.pdf; ComponentLink2Description: DS1487 Web Page; ComponentLink2URL: http://www.national.com/pf/DS/DS1487.html; ComponentLink3Description: M08A Package Page; ComponentLink3URL: http://www.national.com/packaging/folders/m08a.html
footprint M08A_N (SOIC, 8-Leads, Body 4.9x3.9mm, Pitch 1.27mm, IPC Medium Density)
footprint M08A_L (SOIC, 8-Leads, Body 4.9x3.9mm, Pitch 1.27mm, IPC High Density)
footprint M08A_M (SOIC, 8-Leads, Body 4.9x3.9mm, Pitch 1.27mm, IPC Low Density)
pins: 1 RO (out), 2 RE (in), 3 DE (in), 4 DI (in), 5 GND (power), 6 A (io), 7 B (io), 8 VCC (power)

## DS1776E/883
designator U?
Pi-Bus Transceiver; PartNumber: DS1776E/883; Manufacturer: National Semiconductor; CompType: Interface IC; PackageTopMarking: NSZSSXXYYA*DS1776E*/883 Q*5962-*9231701M3A; PowerWise: N; Published: 4-Dec-2008; DatasheetVersion: Jan-1996; PackageVersion: revG, Apr-2004; PackageReference: E28A; Publisher: Altium Limited; PackageDescription: Leadless Chip Carrier, .450 x .450 x .069in Body, Type C, 28 Terminal; RoHS: N; PinCount: 28; Code_JEDEC: MS-004-CC; ComponentLink1Description: DS1776 Datasheet; ComponentLink1URL: http://www.national.com/ds/DS/DS1776.pdf; ComponentLink2Description: DS1776 Web Page; ComponentLink2URL: http://www.national.com/pf/DS/DS1776.html; ComponentLink3Description: E28A Package Page; ComponentLink3URL: http://www.national.com/packaging/folders/e28a.html
footprint E28A_N (Leadless Chip Carrier, 28-Leads, Body 11.4x11.4mm, Pitch 1.27mm, IPC Medium Density)
footprint E28A_L (Leadless Chip Carrier, 28-Leads, Body 11.4x11.4mm, Pitch 1.27mm, IPC High Density)
footprint E28A_M (Leadless Chip Carrier, 28-Leads, Body 11.4x11.4mm, Pitch 1.27mm, IPC Low Density)
pins: 1 VCC (power), 2 OEA (in), 3 A0 (io), 4 GND (power), 5 A1 (io), 6 A2 (io), 7 A3 (io), 8 GND (power), 9 A4 (io), 10 A5 (io), 11 GND (power), 12 A6 (io), 13 A7 (io), 14 VX (in), 15 OEB0 (in), 16 OEB1 (in), 17 B7 (io), 18 GND (power), 19 B6 (io), 20 B5 (io), 21 B4 (io), 22 GND (power), 23 B3 (io), 24 B2 (io), 25 GND (power), 26 B1 (io), 27 B0 (io), 28 LE (in)

## DS3486M
designator U?
Quad RS-422, RS-423 Line Receiver; PartNumber: DS3486M; Manufacturer: National Semiconductor; CompType: Interface IC; PackageTopMarking: NSUZXYTT*DS3486M; PowerWise: N; Published: 4-Dec-2008; DatasheetVersion: Apr-2007; PackageVersion: revJ, Aug-1995; PackageReference: M16A; Publisher: Altium Limited; PackageDescription: Molded Package, S.O., .150in Wide, 16 Lead; RoHS: Y; PinCount: 16; DigiKeyPartNumber: DS3486M-ND; Code_JEDEC: MS-012-AC; Code_IPC: SOIC127P600-16; ComponentLink1Description: DS3486 Datasheet; ComponentLink1URL: http://www.national.com/ds/DS/DS3486.pdf; ComponentLink2Description: DS3486 Web Page; ComponentLink2URL: http://www.national.com/pf/DS/DS3486.html; ComponentLink3Description: M16A Package Page; ComponentLink3URL: http://www.national.com/packaging/folders/m16a.html
footprint M16A_N (SOIC, 16-Leads, Body 9.9x3.9mm, Pitch 1.27mm, IPC Medium Density)
footprint M16A_L (SOIC, 16-Leads, Body 9.9x3.9mm, Pitch 1.27mm, IPC High Density)
footprint M16A_M (SOIC, 16-Leads, Body 9.9x3.9mm, Pitch 1.27mm, IPC Low Density)
pins: 1 IN A- (in), 2 IN A+ (in), 3 OUT A (hiz), 4 A/C CNTL (in), 5 OUT C (hiz), 6 IN C+ (in), 7 IN C- (in), 8 GND (power), 9 IN D- (in), 10 IN D+ (in), 11 OUT D (hiz), 12 B/D CNTL (in), 13 OUT B (hiz), 14 IN B+ (in), 15 IN B- (in), 16 VCC (power)

## DS3487M
designator U?
Quad Tri-State Line Driver; PartNumber: DS3487M; Manufacturer: National Semiconductor; CompType: Interface IC; PackageTopMarking: NSUZXYTT*DS3487M; PowerWise: N; Published: 4-Dec-2008; DatasheetVersion: May-1998; PackageVersion: revJ, Aug-1995; PackageReference: M16A; Publisher: Altium Limited; PackageDescription: Molded Package, S.O., .150in Wide, 16 Lead; RoHS: O; PinCount: 16; DigiKeyPartNumber: DS3487M-ND; Code_JEDEC: MS-012-AC; Code_IPC: SOIC127P600-16; ComponentLink1Description: DS3487 Datasheet; ComponentLink1URL: http://www.national.com/ds/DS/DS3487.pdf; ComponentLink2Description: DS3487 Web Page; ComponentLink2URL: http://www.national.com/pf/DS/DS3487.html; ComponentLink3Description: M16A Package Page; ComponentLink3URL: http://www.national.com/packaging/folders/m16a.html
footprint M16A_N (SOIC, 16-Leads, Body 9.9x3.9mm, Pitch 1.27mm, IPC Medium Density)
footprint M16A_L (SOIC, 16-Leads, Body 9.9x3.9mm, Pitch 1.27mm, IPC High Density)
footprint M16A_M (SOIC, 16-Leads, Body 9.9x3.9mm, Pitch 1.27mm, IPC Low Density)
pins: 1 IN A (in), 2 OUT A (hiz), 3 ~{OUT} A (hiz), 4 A/B CNTL (in), 5 ~{OUT} B (hiz), 6 OUT B (hiz), 7 IN B (in), 8 GND (power), 9 IN C (in), 10 OUT C (hiz), 11 ~{OUT} C (hiz), 12 C/D CNTL (in), 13 ~{OUT} D (hiz), 14 OUT D (hiz), 15 IN D (in), 16 VDD (power)

## DS3691M
designator U?
RS-422/RS-423 Line Drivers With TRI-STATE Outputs; PartNumber: DS3691M; Manufacturer: National Semiconductor; CompType: Interface IC; PackageTopMarking: NSUZXYTT*DS3691M*AM26LS30SC; PowerWise: N; Published: 4-Dec-2008; DatasheetVersion: Jul-1998; PackageVersion: revJ, Aug-1995; PackageReference: M16A; Publisher: Altium Limited; PackageDescription: Molded Package, S.O., .150in Wide, 16 Lead; RoHS: O; PinCount: 16; DigiKeyPartNumber: DS3691M-ND; Code_JEDEC: MS-012-AC; Code_IPC: SOIC127P600-16; ComponentLink1Description: DS3691 Datasheet; ComponentLink1URL: http://www.national.com/ds/DS/DS3691.pdf; ComponentLink2Description: DS3691 Web Page; ComponentLink2URL: http://www.national.com/pf/DS/DS3691.html; ComponentLink3Description: M16A Package Page; ComponentLink3URL: http://www.national.com/packaging/folders/m16a.html
footprint M16A_N (SOIC, 16-Leads, Body 9.9x3.9mm, Pitch 1.27mm, IPC Medium Density)
footprint M16A_L (SOIC, 16-Leads, Body 9.9x3.9mm, Pitch 1.27mm, IPC High Density)
footprint M16A_M (SOIC, 16-Leads, Body 9.9x3.9mm, Pitch 1.27mm, IPC Low Density)
pins: 1 VCC (power), 2 INPUT A (in), 3 INPUT B/DISABLE (in), 4 MODE SELECT (in), 5 GND (power), 6 INPUT C/DISABLE (in), 7 INPUT D (in), 8 VEE (power), 9 RISE TIME CONTROL D (in), 10 OUTPUT D (out), 11 OUTPUT C (out), 12 RISE TIME CONTROL C (in), 13 RISE TIME CONTROL B (in), 14 OUTPUT B (out), 15 OUTPUT A (out), 16 RISE TIME CONTROL A (in)

## DS3695AM
designator U?
Multipoint RS485/RS422 Transceiver; PartNumber: DS3695AM; Manufacturer: National Semiconductor; CompType: Interface IC; PackageTopMarking: NSZXTT*DS36*95AM; PowerWise: N; Published: 4-Dec-2008; DatasheetVersion: Feb-1996; PackageVersion: revL, Sep-2006; PackageReference: M08A; Publisher: Altium Limited; PackageDescription: SOIC Narrow, 4.9 x 3.9 x 1.45mm, 8 Lead, 1.27mm Pitch; RoHS: O; PinCount: 8; DigiKeyPartNumber: DS3695AM-ND; Code_JEDEC: MS-012-AA; Code_IPC: SOIC127P600-8; ComponentLink1Description: DS3695A Datasheet; ComponentLink1URL: http://www.national.com/ds/DS/DS3695A.pdf; ComponentLink2Description: DS3695A Web Page; ComponentLink2URL: http://www.national.com/pf/DS/DS3695A.html; ComponentLink3Description: M08A Package Page; ComponentLink3URL: http://www.national.com/packaging/folders/m08a.html
footprint M08A_N (SOIC, 8-Leads, Body 4.9x3.9mm, Pitch 1.27mm, IPC Medium Density)
footprint M08A_L (SOIC, 8-Leads, Body 4.9x3.9mm, Pitch 1.27mm, IPC High Density)
footprint M08A_M (SOIC, 8-Leads, Body 4.9x3.9mm, Pitch 1.27mm, IPC Low Density)
pins: 1 RO (out), 2 ~{RE} (in), 3 DE (in), 4 DI (in), 5 GND (power), 6 DO/RI (io), 7 ~{DO}/~{RI} (io), 8 VCC (power)